# Altium footprint library inductor.PcbLib: 48 footprints (part 1 of 3)
Each footprint in its own frame and in the unit in brackets; x right, y up, seen from the top. Pads: shape width x height; smd on the part's side, far side on the other; paste and mask are expansions set on the pad; w line width, h text height; cw(c..) or ccw(c..) is an arc to the next point about the centre after c.
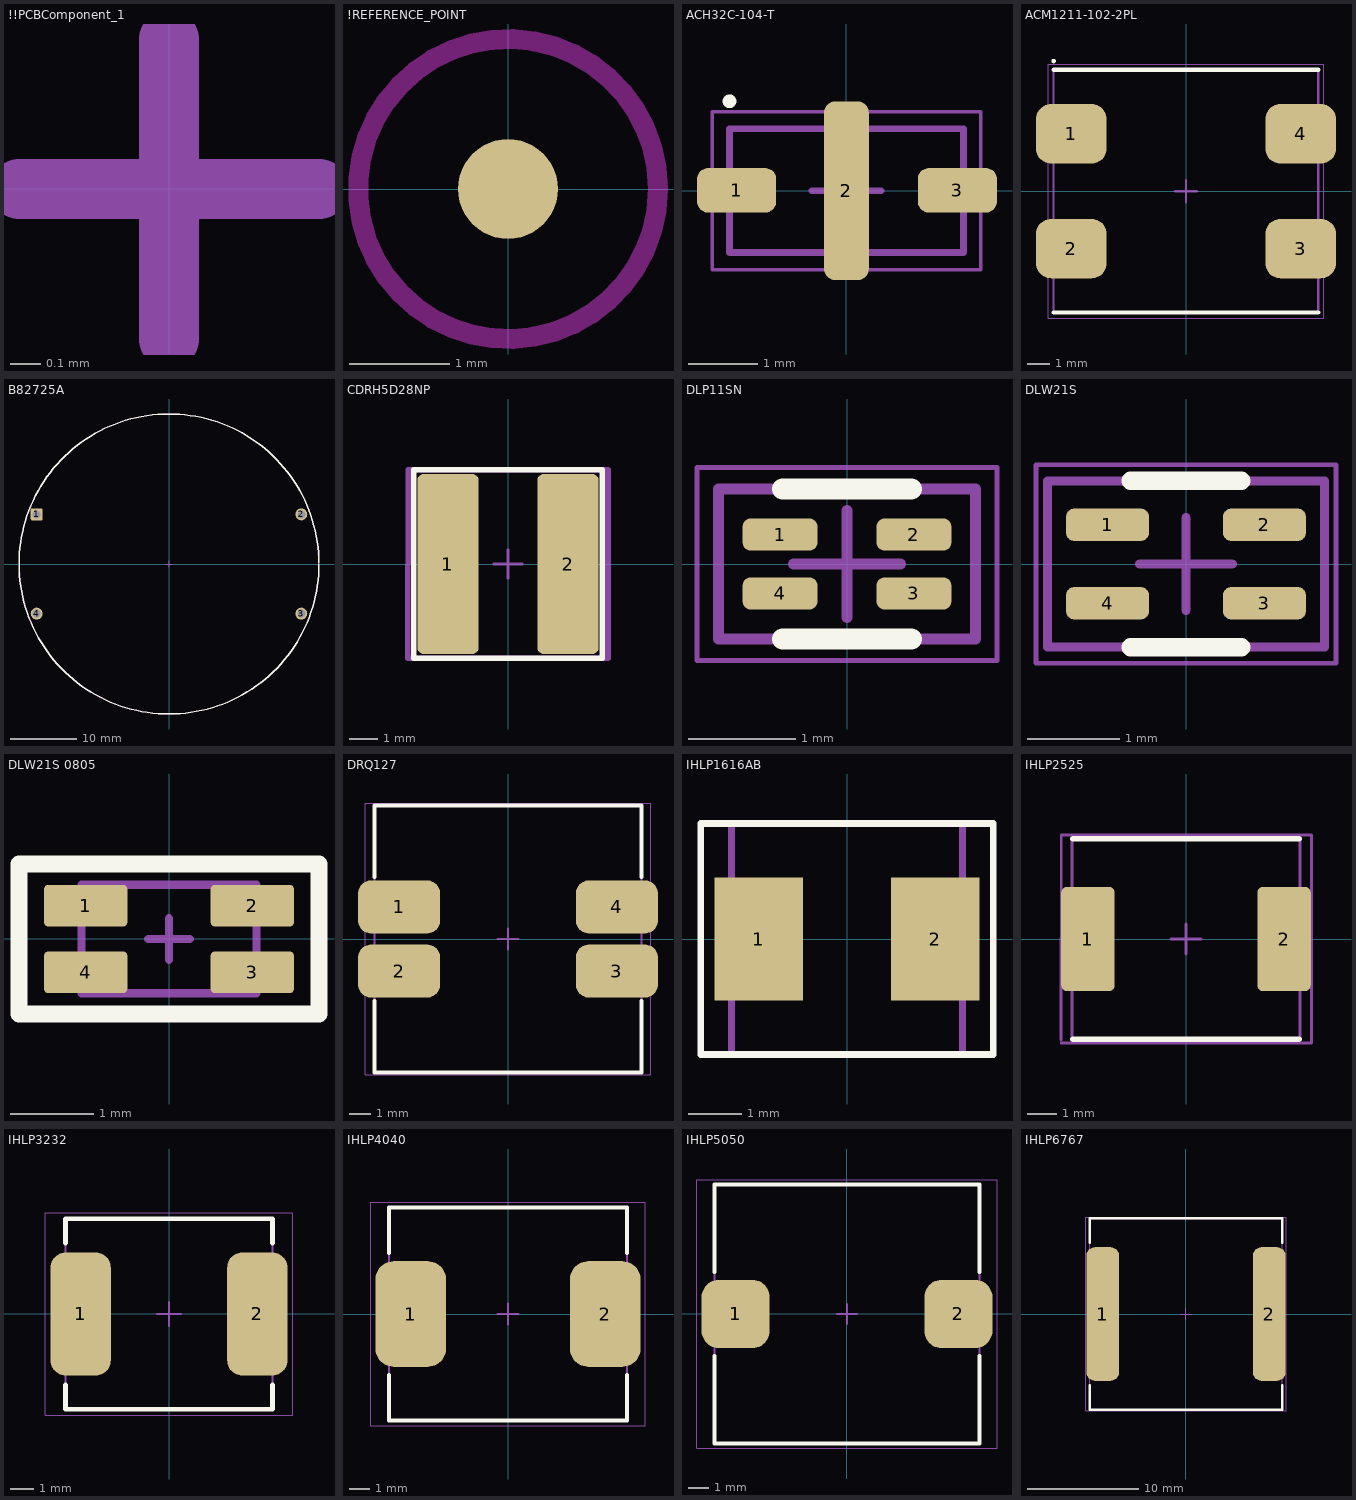
[diagram p0: the footprints below, top view; thin cyan lines are the x and y axes]

## !!PCBComponent_1 [mm]
M3_comm_top:
  text ".comment" at -0.9,-0.3 h1
M5_asm_top:
  text ".Designator" at -1,1.3 h1
M7_courtyard_top:
  lines w0.2: -0.5,0 0.5,0 ; 0,-0.5 0,0.5

## !REFERENCE_POINT [mm]
pads (1):
  round 1 smd mask+1: ""(0,0)
Keep-Out Layer:
  circle w0.2: c0,0 r1.5
3D body "reper.STEP": height 0, standoff 0, extent -0.5,-0.5 0.5,0.5

## ACH32C-104-T [mm] "IPC Medium Density"
height 2.3
pads (3):
  rrect50% 1.15x0.65 smd mask+0.05: 1(-1.597,0.006) 3(1.613,0.006)
  rrect50% 0.65x2.6 smd mask+0.05: 2(0,0)
Top Overlay:
  circle w0.1: c-1.7,1.3 r0.05
Mechanical 13:
  lines w0.1: -1.7,-0.9 -1.7,0.9 1.7,0.9 1.7,-0.9 -1.7,-0.9
Mechanical 15:
  lines w0.05: -1.95,-1.15 -1.95,1.15 1.95,1.15 1.95,-1.15 -1.95,-1.15
  lines w0.1: -0.5,0 0.5,0 ; 0,-0.5 0,0.5
3D body "ach32c.STEP": height 2.06, standoff 0, extent -1.597,-0.924 1.613,0.936

## ACM1211-102-2PL [mm] "IPC Medium Density"
height 6
pads (4):
  rrect50% 3.2x2.7 smd: 1(-5.2,2.6) 2(-5.2,-2.6) 3(5.2,-2.6) 4(5.2,2.6)
Top Overlay:
  circle w0.1: c-6,5.9 r0.05
  lines w0.2: -6,-5.5 6,-5.5 ; -6,5.5 6,5.5
Mechanical 13:
  lines w0.1: -6,-5.5 -6,5.5 6,5.5 6,-5.5 -6,-5.5
Mechanical 15:
  lines w0.05: -6.25,-5.75 -6.25,5.75 6.25,5.75 6.25,-5.75 -6.25,-5.75
  lines w0.1: -0.5,0 0.5,0 ; 0,-0.5 0,0.5
3D body "Polecat.STEP": height 5.5, standoff 0.03, extent -6.296,-6.35 6.297,6.35

## B82725A [mm] "CMC 1.8MH 10A 2LN TH"
height 10
pads (4):
  rrect20% 1.8x1.8 hole 1.2: 1(-20,7.5)
  round 1.8 hole 1.2: 2(20,7.5) 3(20,-7.5) 4(-20,-7.5)
Top Overlay:
  lines w0.2: 22.675,0.084 ccw(c0,0) 22.675,-0.001
M3_comm_top:
  text ".comment" at -0.9,-0.3 h1
M5_asm_top:
  lines w0.1: 22.663,0.05 cw(c0,0) 22.663,0.075
  text ".Designator" at -1.325,21.35 h1
M7_courtyard_top:
  lines w0.1: -0.5,0 0.5,0 ; 0,-0.5 0,0.5
3D body "User Library-B82725A.STEP": height 25, standoff -3.5, extent -22,-21.225 22,21.175

## CDRH5D28NP [mm] "CDRH5D28NP-470NC"
height 7
pads (2):
  rrect20% 2.15x6.3 smd: 1(-2.1,0) 2(2.1,0)
Top Overlay:
  lines w0.2: -3.3,-3.3 3.3,-3.3 3.3,3.3 -3.3,3.3 -3.3,-3.3
M3_comm_top:
  text ".comment" at -0.9,-0.3 h1
M5_asm_top:
  lines w0.1: -3.3,-3.3 -3.3,3.3 3.3,3.3 3.3,-3.3 -3.3,-3.3
  text ".Designator" at -1,1.3 h1
M7_courtyard_top:
  lines w0.1: -0.5,0 0.5,0 ; 0,-0.5 0,0.5
  lines w0.2: -3.509,-3.3 -3.495,3.3 3.5,3.3 3.5,-3.3 -3.509,-3.3
3D body "User Library-cdrh5d28.step": height 2.9, standoff -0.1, extent -3,-3 3,3

## DLP11SN [mm] "IPC Medium Density"
height 6
pads (4):
  rrect50% 0.7x0.3 smd: 1(-0.625,0.275) 2(0.625,0.275) 3(0.625,-0.275) 4(-0.625,-0.275)
Top Overlay:
  lines w0.2: -0.6,-0.7 0.6,-0.7 ; -0.6,0.7 0.6,0.7
Mechanical 13:
  lines w0.1: -1.2,-0.7 -1.2,0.7 1.2,0.7 1.2,-0.7 -1.2,-0.7
Mechanical 15:
  lines w0.05: -1.4,-0.9 -1.4,0.9 1.4,0.9 1.4,-0.9 -1.4,-0.9
  lines w0.1: -0.5,0 0.5,0 ; 0,-0.5 0,0.5
3D body "DLP11S.step": height 0.87, standoff 0.02, extent -0.65,-0.5 0.65,0.5

## DLW21S [mm] "IPC Medium Density"
height 6
pads (4):
  rrect50% 0.9x0.35 smd: 1(-0.85,0.425) 2(0.85,0.425) 3(0.85,-0.425) 4(-0.85,-0.425)
Top Overlay:
  lines w0.2: -0.6,-0.9 0.6,-0.9 ; -0.6,0.9 0.6,0.9
Mechanical 13:
  lines w0.1: -1.5,-0.9 -1.5,0.9 1.5,0.9 1.5,-0.9 -1.5,-0.9
Mechanical 15:
  lines w0.05: -1.625,-1.075 -1.625,1.075 1.625,1.075 1.625,-1.075 -1.625,-1.075
  lines w0.1: -0.5,0 0.5,0 ; 0,-0.5 0,0.5
3D body "User Library-EMI Filter DLW21S.step": height 1.2, standoff 0, extent -1,-0.6 1,0.6
3D body: height 7.9, standoff 0, extent -0.1,-0.325 -0.1,-0.325

## DLW21S 0805 [mm] "Murata DLW Series Signal Lines Type Chip Common Mode Choke Coil"
height 1.4
pads (4):
  rrect20% 1x0.5 smd: 1(-1,0.4) 2(1,0.4) 3(1,-0.4) 4(-1,-0.4)
Top Overlay:
  lines w0.2: -1.8,-0.9 -1.8,0.9 1.8,0.9 1.8,-0.9 -1.8,-0.9
M3_comm_top:
  text ".comment" at -0.9,-0.3 h1
M5_asm_top:
  lines w0.1: -1.05,-0.65 1.05,-0.65 1.05,0.65 -1.05,0.65 -1.05,-0.65
  text ".Designator" at -1,1.3 h1
M7_courtyard_top:
  lines w0.1: -0.25,0 0.25,0 ; 0,-0.25 0,0.25 ; -1.8,-0.9 1.8,-0.9 1.8,0.9 -1.8,0.9 -1.8,-0.9
3D body "EMI Filter DLW21S.step": height 1.2, standoff 0, extent -1,-0.6 1,0.6

## DRQ127 [mm] "2-Leads, Body 12,50x12,50mm, IPC High Density"
height 8
pads (4):
  rrect50% 3.85x2.5 smd: 1(-5.1,1.5) 2(-5.1,-1.5) 3(5.1,-1.5) 4(5.1,1.5)
Top Overlay:
  lines w0.2: -6.25,-2.9 -6.25,-6.25 6.25,-6.25 6.25,-2.9 ; -6.25,2.9 -6.25,6.25 6.25,6.25 6.25,2.9
Mechanical 13:
  lines w0.1: -6.25,-6.25 -6.25,6.25 6.25,6.25 6.25,-6.25 -6.25,-6.25
Mechanical 15:
  lines w0.05: -6.675,-6.35 -6.675,6.35 6.675,6.35 6.675,-6.35 -6.675,-6.35
  lines w0.1: -0.5,0 0.5,0 ; 0,-0.5 0,0.5
3D body "DRQ127_12_5x12_5.step": height 8, standoff 0, extent -6.25,-6.25 6.25,6.25

## IHLP1616AB [mm] "IND_IHLP1616AB"
pads (2):
  rect 1.65x2.3 smd: 1(-1.65,0) 2(1.65,0)
Top Overlay:
  lines w0.127: -2.729,-2.157 -2.729,2.157 2.729,2.157 2.729,-2.157 -2.729,-2.157
  text ".Designator" at 0.173,3.485 h0.79
Mechanical 16:
  lines w0.025: -2.729,-2.157 2.729,-2.157 ; -2.729,-2.157 -2.729,2.157 ; -2.729,-2.157 2.729,-2.157 ; -2.729,-2.157 -2.729,2.157 ; -2.729,2.157 2.729,2.157 ; -2.729,2.157 2.729,2.157 ; 2.729,-2.157 2.729,2.157 ; 2.729,-2.157 2.729,2.157
  lines w0.127: -2.157,-2.157 -2.157,2.157 2.157,2.157 2.157,-2.157 -2.157,-2.157
Mechanical 32:
  text "1" at -1.65,0.254 h0.64
  text "2" at 1.65,0.254 h0.64
3D body "User Library-IHLP-1616AB-01.step": height 1.2, standoff 0, extent -2.23,-2.03 2.23,2.03

## IHLP2525 [mm] "PC High Density"
height 7
pads (2):
  rrect20% 1.8x3.5 smd: 1(-3.3,0) 2(3.3,0)
Top Overlay:
  lines w0.2: -3.8,-3.375 3.8,-3.375 ; -3.8,3.375 3.8,3.375
M3_comm_top:
  text ".comment" at -0.9,-0.3 h1
M5_asm_top:
  lines w0.1: -3.84,-3.335 -3.84,3.375 3.8,3.375 3.84,3.335 3.84,-3.375 -3.8,-3.375 -3.84,-3.335
  text ".Designator" at -1,1.3 h1
M7_courtyard_top:
  lines w0.1: -4.214,-3.4 -4.2,3.5 4.2,3.5 ; -4.2,-3.5 4.2,-3.5 ; -0.5,0 0.5,0 ; 0,-0.5 0,0.5 ; 4.225,-3.5 4.225,3.5
3D body "ihlp2525.STEP": height 3.24, standoff 0.01, extent -3.8,-3.4 3.8,3.4

## IHLP3232 [mm] "IPC Medium Density"
height 3
pads (2):
  rrect50% 2.6x5.3 smd: 1(-3.8,0) 2(3.8,0)
Top Overlay:
  lines w0.2: -4.45,-3.05 -4.45,-4.1 4.45,-4.1 4.45,-3.05 ; -4.45,3.05 -4.45,4.1 4.45,4.1 4.45,3.05
Mechanical 13:
  lines w0.1: -4.45,-4.1 -4.45,4.1 4.45,4.1 4.45,-4.1 -4.45,-4.1
Mechanical 15:
  lines w0.05: -5.325,-4.35 -5.325,4.35 5.325,4.35 5.325,-4.35 -5.325,-4.35
  lines w0.1: -0.5,0 0.5,0 ; 0,-0.5 0,0.5
3D body "IHLP3232CZ.STEP": height 2.91, standoff 0.03, extent -4.3,-4.094 4.3,4.1

## IHLP4040 [mm] "IHLP4040, IPC Medium Density"
height 4
pads (2):
  rrect50% 3.4x5.1 smd mask+0.05: 1(-4.7,0) 2(4.7,0)
Top Overlay:
  lines w0.2: -5.75,-2.95 -5.75,-5.15 5.75,-5.15 5.75,-2.95 ; -5.75,2.95 -5.75,5.15 5.75,5.15 5.75,2.95
Mechanical 13:
  lines w0.1: -5.75,-5.15 5.75,-5.15 5.75,5.15 -5.75,5.15 -5.75,-5.15
Mechanical 15:
  lines w0.05: -6.625,-5.4 6.625,-5.4 6.625,5.4 -6.625,5.4 -6.625,-5.4
  lines w0.1: -0.5,0 0.5,0 ; 0,-0.5 0,0.5
3D body "IHLP4040.step": height 4.1, standoff 0, extent -5.85,-5.15 5.85,5.15

## IHLP5050 [mm] "IPC Medium Density"
height 3.5
pads (2):
  rrect50% 3.4x3.4 smd: 1(-5.55,0) 2(5.55,0)
Top Overlay:
  lines w0.2: -6.6,-2.1 -6.6,-6.45 6.6,-6.45 6.6,-2.1 ; -6.6,2.1 -6.6,6.45 6.6,6.45 6.6,2.1
Mechanical 13:
  lines w0.1: -6.6,-6.45 6.6,-6.45 6.6,6.45 -6.6,6.45 -6.6,-6.45
Mechanical 15:
  lines w0.05: -7.475,-6.7 7.475,-6.7 7.475,6.7 -7.475,6.7 -7.475,-6.7
  lines w0.1: -0.5,0 0.5,0 ; 0,-0.5 0,0.5
3D body "IHLP5050CE.stp": height 3.44, standoff 0.05, extent -6.587,-6.381 6.575,6.375

## IHLP6767 [mm] "PC High Density"
height 7
pads (2):
  rrect50% 2.95x12 smd: 1(-7.475,0) 2(7.475,0)
Top Overlay:
  lines w0.2: -8.65,-6.4 -8.65,-8.6 8.65,-8.6 8.65,-6.4 ; -8.65,6.4 -8.65,8.6 8.65,8.6 8.65,6.4
Mechanical 13:
  lines w0.1: -8.64,-8.575 8.64,-8.575 8.64,8.575 -8.64,8.575 -8.64,-8.575
Mechanical 15:
  lines w0.05: -9.025,-8.7 9.025,-8.7 9.025,8.7 -9.025,8.7 -9.025,-8.7
  lines w0.1: -0.5,0 0.5,0 ; 0,-0.5 0,0.5
3D body "6767DZ IHLP PART.step": height 7.03, standoff 0.02, extent -8.7,-8.575 8.7,8.57